# Altium footprint library RUF-Dispositivos-Grales.PcbLib: 97 footprints (part 7 of 7)
Each footprint in its own frame and in the unit in brackets; x right, y up, seen from the top. Pads: shape width x height; smd on the part's side, far side on the other; paste and mask are expansions set on the pad; w line width, h text height; cw(c..) or ccw(c..) is an arc to the next point about the centre after c.
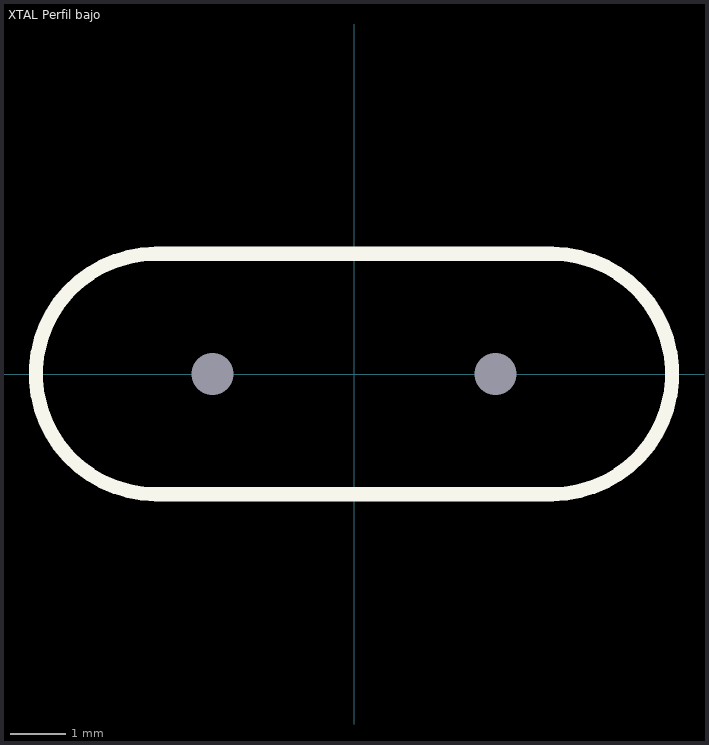
[diagram p6: the footprint, top view; thin cyan lines are the x and y axes]

## XTAL Perfil bajo [mm]
pads (2):
  round 0 / inner round 0 / far side round 1.5 hole 0.75: 1(-2.54,0) 2(2.54,0)
Top Overlay:
  lines w0.254: -3.556,-2.159 cw(c-3.556,0) -3.556,2.159 3.556,2.159 cw(c3.556,0) 3.556,-2.159 -3.556,-2.159
3D body: height 3.25, standoff -2.54, extent -5.207,-1.976 5.301,2.032